# EAGLE library part 691333500016 (library Wurth_Connectors_WR-TBL Pluggable Connector)
WR-TBL Serie 3335 - 5.08 mm Double Level Vertical Male PCB Header with Flanges KIND PROPERTIES Pitch 5.08 mm MATERIAL PROPERTIES Insulator Material PA66 Insulator Flammability Rating UL94 V-0 Contact Material Brass Contact Plating Tin GENERAL INFORMATION Operating Temperature -40 up to +105 °C Compliance RoHS ELECTRICAL PROPERTIES IR UL 20 A Working Voltage [UL] 300 V (AC) Withstanding Voltage [cULus] 1600 V (AC) Contact Resistance [cULus] 20 mΩ CERTIFICATION cULus Approval E315414 <https://www.we-online.com/catalog/media/o33285v209%20Family_WR-TBL_6913335000xx.jpg> Details see: https://www.we-online.com/catalog/en/TBL_5_08_3335_DOUBLE_LEVEL_VERTICAL_MALE_PCB_HEADER_W_FLANGES_6913335000XX/ Updated by Ella Wu 2019-12-25 2022(C) Wurth Elektronik
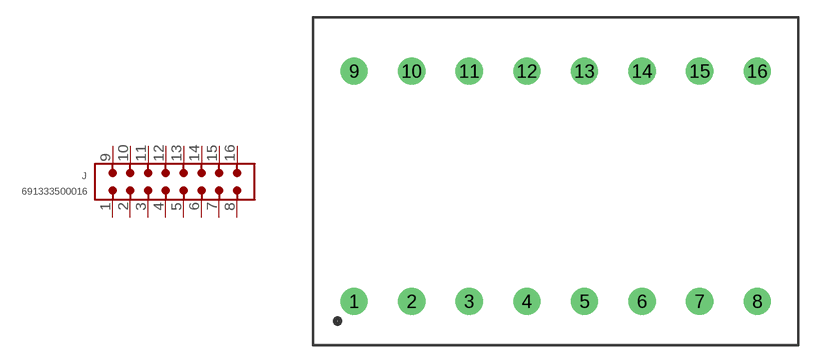
[diagram p248: symbol with the pads of 691333500016; footprint 691333500016]

Designator prefix J

## 691333500016 (DATASHEET-URL: https://www.we-online.com/redexpert/spec/691333500016?ae; IR-UL: 20A; MOUNT: THT; PART-NUMBER: 691333500016; PINS: 16; PITCH: 5.08mm; TYPE: Double Level Vertical; VALUE: 691333500016; WORKING-VOLTAGE-UL: 300V (AC))  [691333500016]
1  1  pas
2  2  pas
3  3  pas
4  4  pas
5  5  pas
6  6  pas
7  7  pas
8  8  pas
9  9  pas
10  10  pas
11  11  pas
12  12  pas
13  13  pas
14  14  pas
15  15  pas
16  16  pas

## Footprint 691333500016 (pad centres in mm)
WR-TBL Serie 3335 - 5.08 mm Double Level Vertical Male PCB Header with Flanges Max Height = 22mm , Pitch 5.08mm , 16pins
drill 1.6: 1 -17.78,-10.16; 2 -12.7,-10.16; 3 -7.62,-10.16; 4 -2.54,-10.16; 5 2.54,-10.16; 6 7.62,-10.16; 7 12.7,-10.16; 8 17.78,-10.16; 9 -17.78,10.16; 10 -12.7,10.16; 11 -7.62,10.16; 12 -2.54,10.16; 13 2.54,10.16; 14 7.62,10.16; 15 12.7,10.16; 16 17.78,10.16